# Altium footprint library WE-MPSA.PcbLib: 9 footprints
Each footprint in its own frame and in the unit in brackets; x right, y up, seen from the top. Pads: shape width x height; smd on the part's side, far side on the other; paste and mask are expansions set on the pad; w line width, h text height; cw(c..) or ccw(c..) is an arc to the next point about the centre after c.
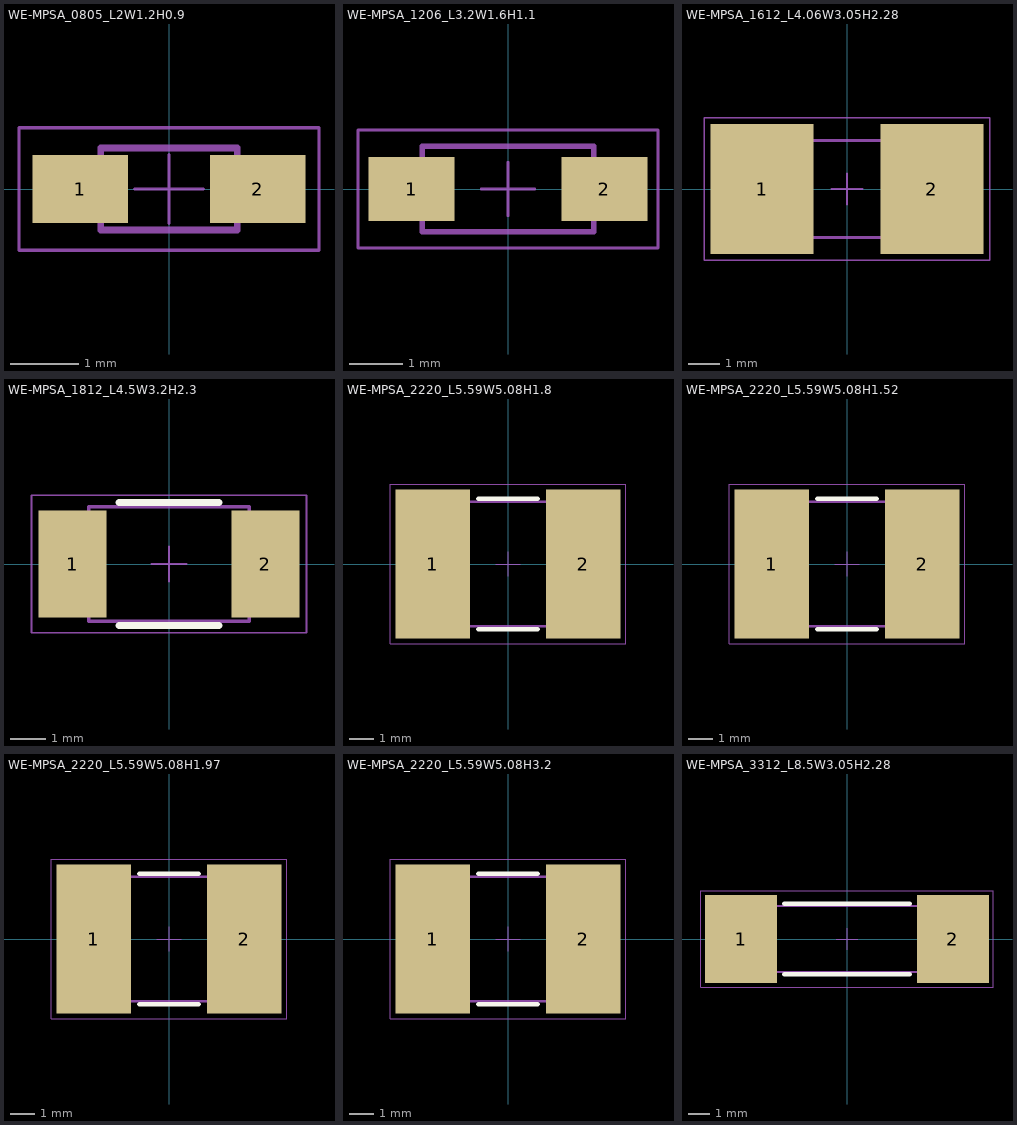
[diagram p0: the footprints below, top view; thin cyan lines are the x and y axes]

## WE-MPSA_0805_L2W1.2H0.9 [mm] "EMI Multilayer Power Suppresion Bead, body 2.00x1.20mm"
height 1.1
pads (2):
  rect 1.4x1 smd: 1(-1.3,0) 2(1.3,0)
Top Designator:
  text ".Designator" at -2.499,-0.167 h0.5
Top Component Outline:
  lines w0.1: -1,-0.6 1,-0.6 1,0.6 -1,0.6 -1,-0.6
Top Courtyard:
  lines w0.05: -0.5,0 0.5,0 ; 0,-0.5 0,0.5 ; -2.2,-0.9 2.2,-0.9 2.2,0.9 -2.2,0.9 -2.2,-0.9
3D body "74879220xxx_0805.stp": height 0.9, standoff 0, extent -1,-0.6 1,0.6

## WE-MPSA_1206_L3.2W1.6H1.1 [mm] "EMI Multilayer Power Suppresion Bead, body 3.20x1.60mm"
height 1.3
pads (2):
  rect 1.6x1.2 smd: 1(-1.8,0) 2(1.8,0)
Top Designator:
  text ".Designator" at -3.499,-0.233 h0.7
Top Component Outline:
  lines w0.1: -1.6,-0.8 1.6,-0.8 1.6,0.8 -1.6,0.8 -1.6,-0.8
Top Courtyard:
  lines w0.05: -0.5,0 0.5,0 ; 0,-0.5 0,0.5 ; -2.8,-1.1 2.8,-1.1 2.8,1.1 -2.8,1.1 -2.8,-1.1
3D body "78279221xxx_1206.stp": height 1.1, standoff 0, extent -1.6,-0.8 1.6,0.8

## WE-MPSA_1612_L4.06W3.05H2.28 [mm] "EMI Multilayer Power Suppresion Bead, body 4.06x3.05mm"
height 2.48
pads (2):
  rect 3.25x4.1 smd: 1(-2.675,0) 2(2.675,0)
Top Designator:
  text ".Designator" at -4.998,-0.333 h1
Top Component Outline:
  lines w0.1: -2.03,-1.525 2.03,-1.525 2.03,1.525 -2.03,1.525 -2.03,-1.525
Top Courtyard:
  lines w0.05: -0.5,0 0.5,0 ; 0,-0.5 0,0.5 ; -4.5,-2.25 4.5,-2.25 4.5,2.25 -4.5,2.25 -4.5,-2.25
3D body "78279223xxx_1612.stp": height 2.28, standoff 0, extent -2.03,-1.525 2.03,1.525

## WE-MPSA_1812_L4.5W3.2H2.3 [mm] "EMI Multilayer Power Suppresion Bead, body 4.50x3.20mm"
height 2.55
pads (2):
  rect 1.9x3 smd: 1(-2.7,0) 2(2.7,0)
Top Overlay:
  lines w0.2: -1.4,-1.725 1.4,-1.725 ; -1.4,1.725 1.4,1.725
Top Designator:
  text ".Designator" at -4.998,-0.333 h1
Top Component Outline:
  lines w0.1: -2.25,-1.6 2.25,-1.6 2.25,1.6 -2.25,1.6 -2.25,-1.6
Top Courtyard:
  lines w0.05: -0.5,0 0.5,0 ; 0,-0.5 0,0.5 ; -3.85,-1.925 3.85,-1.925 3.85,1.925 -3.85,1.925 -3.85,-1.925
3D body "78279226xxx_1812.stp": height 2.3, standoff 0, extent -2.25,-1.6 2.25,1.6

## WE-MPSA_2220_L5.59W5.08H1.8 [mm] "EMI Multilayer Power Suppresion Bead, body 5.59x5.08mm"
height 2.05
pads (2):
  rect 3.05x6.1 smd: 1(-3.075,0) 2(3.075,0)
Top Overlay:
  lines w0.2: -1.2,-2.665 1.2,-2.665 ; -1.2,2.665 1.2,2.665
Top Designator:
  text ".Designator" at -5.998,-0.4 h1.2
Top Component Outline:
  lines w0.1: -2.795,-2.54 2.795,-2.54 2.795,2.54 -2.795,2.54 -2.795,-2.54
Top Courtyard:
  lines w0.05: -0.5,0 0.5,0 ; 0,-0.5 0,0.5 ; -4.8,-3.25 4.8,-3.25 4.8,3.25 -4.8,3.25 -4.8,-3.25
3D body "78279224xxx_2220_1.8mm.stp": height 1.8, standoff 0, extent -2.795,-2.54 2.795,2.54

## WE-MPSA_2220_L5.59W5.08H1.52 [mm] "EMI Multilayer Power Suppresion Bead, body 5.59x5.08mm"
height 1.77
pads (2):
  rect 3.05x6.1 smd: 1(-3.075,0) 2(3.075,0)
Top Overlay:
  lines w0.2: -1.2,-2.665 1.2,-2.665 ; -1.2,2.665 1.2,2.665
Top Designator:
  text ".Designator" at -5.998,-0.4 h1.2
Top Component Outline:
  lines w0.1: -2.795,-2.54 -2.795,2.54 2.795,2.54 2.795,-2.54 -2.795,-2.54
Top Courtyard:
  lines w0.05: -0.5,0 0.5,0 ; 0,-0.5 0,0.5 ; -4.8,-3.25 -4.8,3.25 4.8,3.25 4.8,-3.25 -4.8,-3.25
3D body "78279224171_2220.stp": height 1.52, standoff 0, extent -2.795,-2.54 2.795,2.54

## WE-MPSA_2220_L5.59W5.08H1.97 [mm] "EMI Multilayer Power Suppresion Bead, body 5.59x5.08mm"
height 2.22
pads (2):
  rect 3.05x6.1 smd: 1(-3.075,0) 2(3.075,0)
Top Overlay:
  lines w0.2: -1.2,-2.665 1.2,-2.665 ; -1.2,2.665 1.2,2.665
Top Designator:
  text ".Designator" at -5.998,-0.4 h1.2
Top Component Outline:
  lines w0.1: -2.795,-2.54 2.795,-2.54 2.795,2.54 -2.795,2.54 -2.795,-2.54
Top Courtyard:
  lines w0.05: -0.5,0 0.5,0 ; 0,-0.5 0,0.5 ; -4.8,-3.25 4.8,-3.25 4.8,3.25 -4.8,3.25 -4.8,-3.25
3D body "78279224551_2220.stp": height 1.97, standoff 0, extent -2.795,-2.54 2.795,2.54

## WE-MPSA_2220_L5.59W5.08H3.2 [mm] "EMI Multilayer Power Suppresion Bead, body 5.59x5.08mm"
height 3.45
pads (2):
  rect 3.05x6.1 smd: 1(-3.075,0) 2(3.075,0)
Top Overlay:
  lines w0.2: -1.2,-2.665 1.2,-2.665 ; -1.2,2.665 1.2,2.665
Top Designator:
  text ".Designator" at -5.998,-0.4 h1.2
Top Component Outline:
  lines w0.1: -2.795,-2.54 -2.795,2.54 2.795,2.54 2.795,-2.54 -2.795,-2.54
Top Courtyard:
  lines w0.05: -0.5,0 0.5,0 ; 0,-0.5 0,0.5 ; -4.8,-3.25 -4.8,3.25 4.8,3.25 4.8,-3.25 -4.8,-3.25
3D body "78279224xxx_2220_3.2mm.stp": height 3.2, standoff 0, extent -2.795,-2.54 2.795,2.54

## WE-MPSA_3312_L8.5W3.05H2.28 [mm] "EMI Multilayer Power Suppresion Bead, body 8.50x3.05mm"
height 2.48
pads (2):
  rect 3.3x4.06 smd: 1(-4.89,0) 2(4.89,0)
Top Overlay:
  lines w0.2: -2.9,-1.625 2.9,-1.625 ; -2.9,1.625 2.9,1.625
Top Designator:
  text ".Designator" at -5.998,-0.4 h1.2
Top Component Outline:
  lines w0.1: -4.25,-1.525 4.25,-1.525 4.25,1.525 -4.25,1.525 -4.25,-1.525
Top Courtyard:
  lines w0.05: -0.5,0 0.5,0 ; 0,-0.5 0,0.5 ; -6.74,-2.23 6.74,-2.23 6.74,2.23 -6.74,2.23 -6.74,-2.23
3D body "78279225xxx_3312.stp": height 2.28, standoff 0, extent -4.25,-1.525 4.25,1.525